# EAGLE library part LED5060 (library GW-devices)
PLCC-6 5060 6000mcd RGB LED
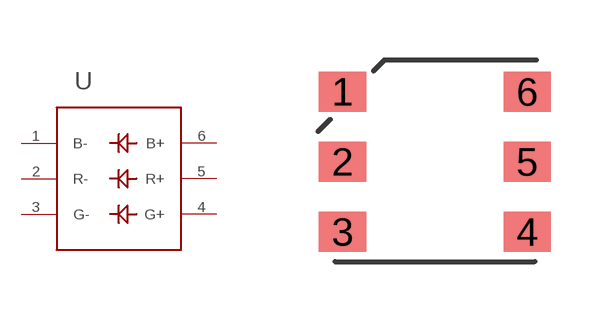
[diagram p17: symbol with the pads of PLCC-6; footprint PLCC-6]

Designator prefix -

## LED5060A (PRICE: 0.25)  [PLCC-6]
1  B-
2  R-
3  G-
4  G+
5  R+
6  B+

## Footprint PLCC-6 (pad centres in mm)
smd 1.18 x 1: 1 -2.31,1.75; 2 -2.31,0; 3 -2.31,-1.75; 4 2.31,-1.75; 5 2.31,0; 6 2.31,1.75